# Altium schematic symbol library Standard Logic.SchLib: 7 symbols
Pins are listed as number, name and electrical type; pins without a type are passive.

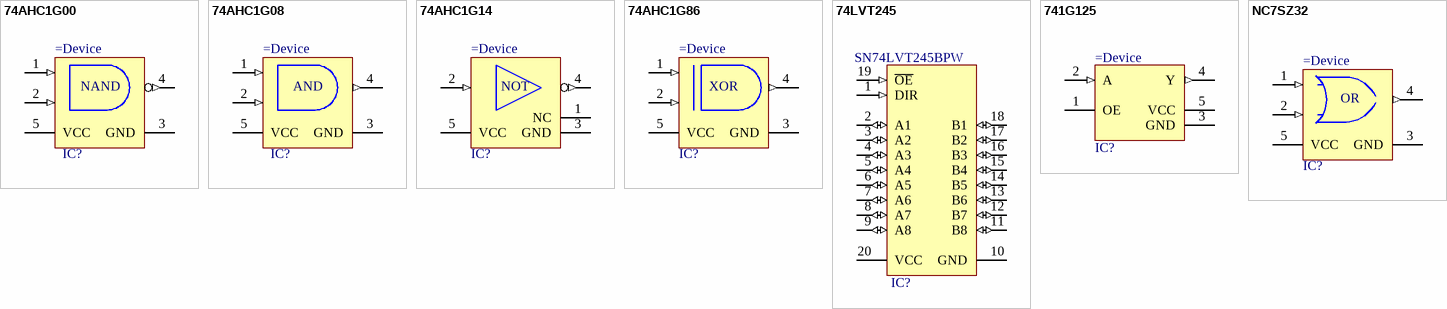
[diagram p0: symbols 74AHC1G00 to NC7SZ32]

## 74AHC1G00
designator IC?
Single 2-Input Positive-NAND Gate
pins: 1 B (in), 2 A (in), 3 GND (power), 4 Y (out), 5 VCC (power)
text: NAND

## 74AHC1G08
designator IC?
Single 2-Input Positive-AND Gate
pins: 1 B (in), 2 A (in), 3 GND (power), 4 Y (out), 5 VCC (power)
text: AND

## 74AHC1G14
designator IC?
Single Schmitt-Trigger Inverter
pins: 1 NC, 2 A (in), 3 GND (power), 4 Y (out), 5 VCC (power)
text: NOT

## 74AHC1G86
designator IC?
Single 2-input, 2-V to 5.5-V XOR (exclusive OR) gate
pins: 1 B (in), 2 A (in), 3 GND (power), 4 Y (out), 5 VCC (power)
text: XOR

## 74LVT245
designator IC?, comment SN74LVT245BPW
Octal Bi-Directional Transceiver with 3-State Inputs/Outputs; Part Description: 3.3V Octal Bus Transceiver With 3-State Outputs; Manufacturer: TEXAS INSTRUMENTS; PressFit: No; Bonding: No; Part Number: SN74LVT245BPW; Component Kind: Standard; Component Type: Standard; Device: SN74LVT245BPW; Footprint: SOP65P640X120-20N; PackageDescription: SOP, 20-Leads, Body 6.5x4.4mm, Pitch 0.65mm, IPC Medium Density; Manufacturer Part Number: SN74LVT245BPW; Pin Count: 20; Case: TSSOP20; Mounted: Yes; Socket: No; SMD: Yes; Sense: No; ComponentHeight: 1.2mm; Author: CERN DEM MR; HelpURL: \\cern.ch\dfs\Applications\Altium\Datasheets\SN74LVT245BPW.pdf; CreateDate: 2016/1/29; LatestRevisionDate: 2016/1/29
pins: 1 DIR (in), 2 A1 (io), 3 A2 (io), 4 A3 (io), 5 A4 (io), 6 A5 (io), 7 A6 (io), 8 A7 (io), 9 A8 (io), 10 GND (power), 11 B8 (io), 12 B7 (io), 13 B6 (io), 14 B5 (io), 15 B4 (io), 16 B3 (io), 17 B2 (io), 18 B1 (io), 19 ~{OE} (in), 20 VCC (power)

## 741G125
designator IC?
Single Bus Buffer Gate With 3-State Output
pins: 1 OE, 2 A (in), 3 GND (power) hidden to GND, 3 GND (power), 4 Y (out), 5 VCC (power) hidden to VCC, 5 VCC (power)

## NC7SZ32
designator IC?
TinyLogic?UHS Two-Input OR Gate
pins: 1 A (in), 2 B (in), 3 GND (power), 4 Y (out), 5 VCC (power)
text: OR